# Altium footprint library 600F270FT250XT.PcbLib: 1 footprints
Each footprint in its own frame and in the unit in brackets; x right, y up, seen from the top. Pads: shape width x height; smd on the part's side, far side on the other; paste and mask are expansions set on the pad; w line width, h text height; cw(c..) or ccw(c..) is an arc to the next point about the centre after c.
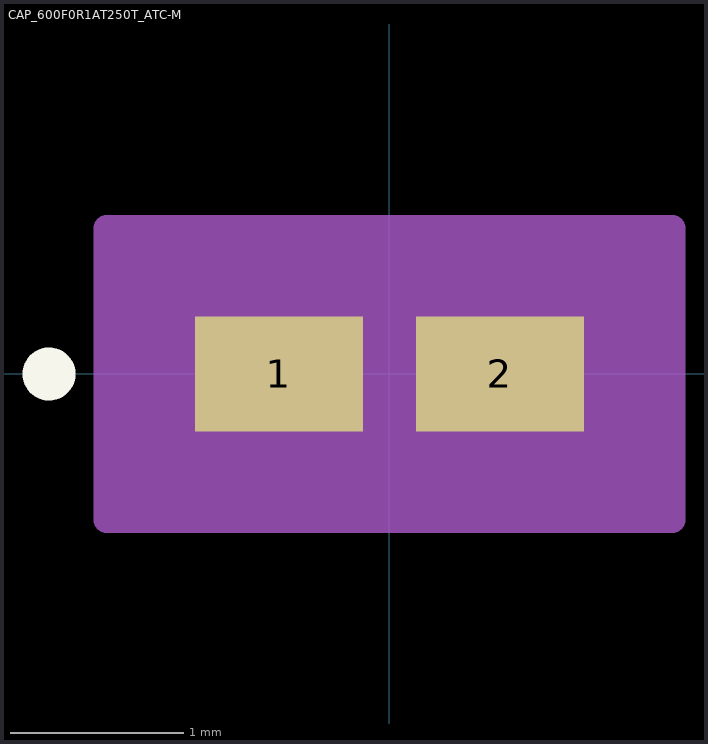
[diagram p0: the footprint, top view; thin cyan lines are the x and y axes]

## CAP_600F0R1AT250T_ATC-M [mil]
pads (2):
  rect 38x26 smd paste+0 mask+0: 1(-25,0) 2(25,0)
Top Overlay:
  circle w6: c-77,0 r3
Mechanical 5:
  region: 59,-28 -59,-28 -59,28 59,28
Mechanical 13:
  circle w0: c-20,0 r3
  lines w1: -22,-12 -22,12 ; -22,-12 -6,-12 -6,12 -22,12 ; -22,-12 22,-12 ; -22,-12 -22,12 ; -22,12 22,12 ; 22,-12 6,-12 6,12 22,12 ; 22,-12 22,12 ; 22,-12 22,12
Mechanical 15:
  region: 64,-33 -64,-33 -64,33 64,33
  lines w6: -64,-33 -64,33 64,33 64,-33 -64,-33
3D body "CAP_600F0R1AT250T_ATC.step": height 24.02, standoff 0, extent -22.01,-12.01 22.01,12.01